# EAGLE library part MINI_FIT_JR_6POS_RA (library UBCSolar)
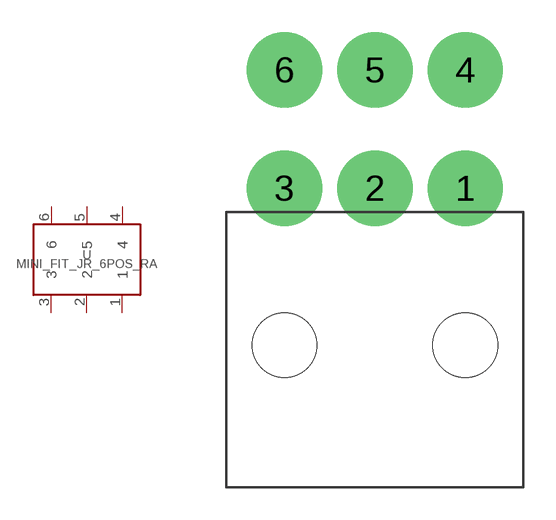
[diagram p14: symbol with the pads of MINI_FIT_JR_6POS_RA; footprint MINI_FIT_JR_6POS_RA]

Designator prefix -

## MINI_FIT_JR_6POS_RA  [MINI_FIT_JR_6POS_RA]
1  1
2  2
3  3
4  4
5  5
6  6

## Footprint MINI_FIT_JR_6POS_RA (pad centres in mm)
Mini-fit Jr. 6pos RA connector https://www.digikey.ca/product-detail/en/molex/0039301060/WM1353-ND/561080
drill 1.8 pad 3.5: 1 4.2,-2.75; 2 0,-2.75; 3 -4.2,-2.75; 4 4.2,2.75; 5 0,2.75; 6 -4.2,2.75
hole 3 at 4.2,-10.05
hole 3 at -4.2,-10.05